# EAGLE library part INSECTCHIP3A (library harrison)
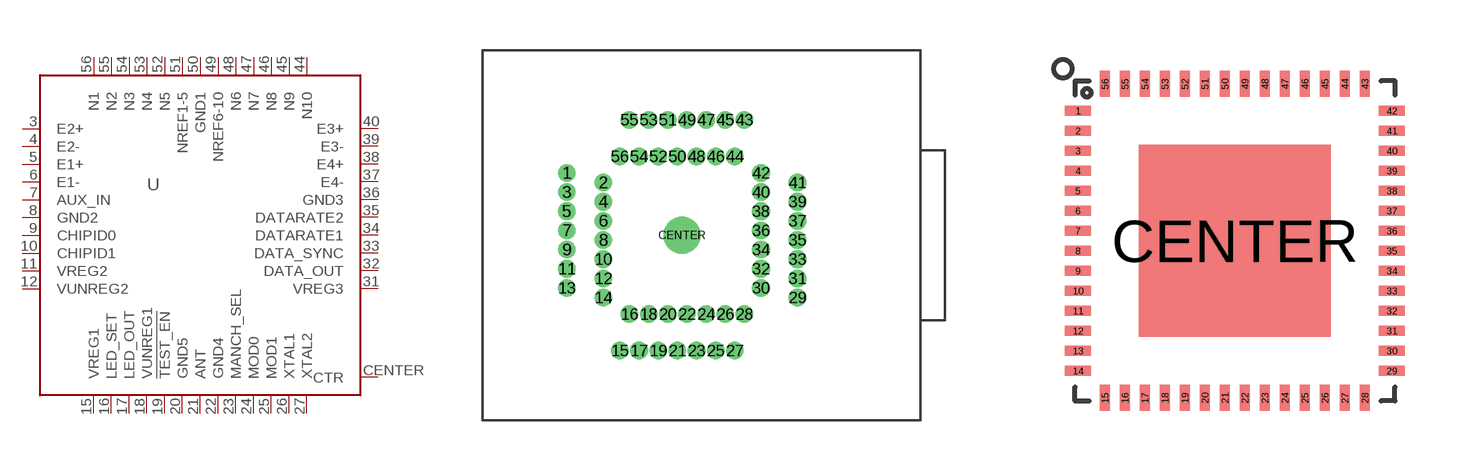
[diagram p58: symbol with the pads of ZIF_QFN56_8_X_8; footprints ZIF_QFN56_8_X_8, QFN56_8_X_8]

Designator prefix U

## INSECTCHIP3A_ZIF  [ZIF_QFN56_8_X_8]
3  E2+  in
4  E2-  in
5  E1+  in
6  E1-  in
7  AUX_IN  in
8  GND2  pwr
9  CHIPID0  in
10  CHIPID1  in
11  VREG2  pwr
12  VUNREG2  pwr
15  VREG1  pwr
16  LED_SET  pas
17  LED_OUT  pas
18  VUNREG1  pwr
19  !TEST_EN!  in
20  GND5  pwr
21  ANT  pas
22  GND4  pwr
23  MANCH_SEL  in
24  MOD0  in
25  MOD1  in
26  XTAL1  pas
27  XTAL2  pas
31  VREG3  pwr
32  DATA_OUT  out
33  DATA_SYNC  out
34  DATARATE1  in
35  DATARATE2  in
36  GND3  pwr
37  E4-  in
38  E4+  in
39  E3-  in
40  E3+  in
44  N10  in
45  N9  in
46  N8  in
47  N7  in
48  N6  in
49  NREF6-10  in
50  GND1  pwr
51  NREF1-5  in
52  N5  in
53  N4  in
54  N3  in
55  N2  in
56  N1  in
CENTER  CTR  pwr

## INSECTCHIP3A_QFN  [QFN56_8_X_8]
Pads as for ZIF_QFN56_8_X_8

## INSECTCHIP3A_COB1  [INSECTCHIP3_COB_1]
1  E2+  in
2  E2-  in
3  E1+  in
4  E1-  in
5  AUX_IN  in
6  GND2  pwr
7  CHIPID0  in
8  CHIPID1  in
9  VREG2  pwr
10  VUNREG2  pwr
11  VREG1  pwr
12  LED_SET  pas
13  LED_OUT  pas
14  VUNREG1  pwr
15  !TEST_EN!  in
16  GND5  pwr
17  ANT  pas
18  GND4  pwr
19  MANCH_SEL  in
20  MOD0  in
21  MOD1  in
22  XTAL1  pas
23  XTAL2  pas
24  VREG3  pwr
25  DATA_OUT  out
26  DATA_SYNC  out
27  DATARATE1  in
28  DATARATE2  in
29  GND3  pwr
30  E4-  in
31  E4+  in
32  E3-  in
33  E3+  in
34  N10  in
35  N9  in
36  N8  in
37  N7  in
38  N6  in
39  NREF6-10  in
40  GND1  pwr
41  NREF1-5  in
42  N5  in
43  N4  in
44  N3  in
45  N2  in
46  N1  in
CENTER  CTR  pwr

## INSECTCHIP3A_COB2  [INSECTCHIP3_COB_2]
Pads as for INSECTCHIP3_COB_1

## Footprint ZIF_QFN56_8_X_8 (pad centres in mm)
drill 0.41 pad 0.813: 1 -6.02,3.251; 2 -4.115,2.751; 3 -6.02,2.25; 4 -4.115,1.75; 5 -6.02,1.25; 6 -4.115,0.752; 7 -6.02,0.249; 8 -4.115,-0.249; 9 -6.02,-0.749; 10 -4.115,-1.25; 11 -6.02,-1.75; 12 -4.115,-2.25; 13 -6.02,-2.751; 14 -4.115,-3.251; 15 -3.251,-6.02; 16 -2.751,-4.115; 17 -2.25,-6.02; 18 -1.75,-4.115; 19 -1.25,-6.02; 20 -0.752,-4.115; 21 -0.249,-6.02; 22 0.249,-4.115; 23 0.749,-6.02; 24 1.25,-4.115; 25 1.75,-6.02; 26 2.25,-4.115; 27 2.751,-6.02; 28 3.251,-4.115; 29 6.02,-3.251; 30 4.115,-2.751; 31 6.02,-2.25; 32 4.115,-1.75; 33 6.02,-1.25; 34 4.115,-0.752; 35 6.02,-0.249; 36 4.115,0.249; 37 6.02,0.749; 38 4.115,1.25; 39 6.02,1.75; 40 4.115,2.25; 41 6.02,2.751; 42 4.115,3.251; 43 3.251,6.02; 44 2.751,4.115; 45 2.25,6.02; 46 1.75,4.115; 47 1.25,6.02; 48 0.752,4.115; 49 0.249,6.02; 50 -0.249,4.115; 51 -0.749,6.02; 52 -1.25,4.115; 53 -1.75,6.02; 54 -2.25,4.115; 55 -2.751,6.02; 56 -3.251,4.115
drill 1.02 pad 1.93: CENTER 0,0

## Footprint QFN56_8_X_8 (pad centres in mm)
smd 0.65 x 0.25: 1 -3.925,3.25; 2 -3.925,2.75; 3 -3.925,2.25; 4 -3.925,1.75; 5 -3.925,1.25; 6 -3.925,0.75; 7 -3.925,0.25; 8 -3.925,-0.25; 9 -3.925,-0.75; 10 -3.925,-1.25; 11 -3.925,-1.75; 12 -3.925,-2.25; 13 -3.925,-2.75; 14 -3.925,-3.25; 29 3.925,-3.25; 30 3.925,-2.75; 31 3.925,-2.25; 32 3.925,-1.75; 33 3.925,-1.25; 34 3.925,-0.75; 35 3.925,-0.25; 36 3.925,0.25; 37 3.925,0.75; 38 3.925,1.25; 39 3.925,1.75; 40 3.925,2.25; 41 3.925,2.75; 42 3.925,3.25
smd 0.25 x 0.65: 15 -3.25,-3.925; 16 -2.75,-3.925; 17 -2.25,-3.925; 18 -1.75,-3.925; 19 -1.25,-3.925; 20 -0.75,-3.925; 21 -0.25,-3.925; 22 0.25,-3.925; 23 0.75,-3.925; 24 1.25,-3.925; 25 1.75,-3.925; 26 2.25,-3.925; 27 2.75,-3.925; 28 3.25,-3.925; 43 3.25,3.925; 44 2.75,3.925; 45 2.25,3.925; 46 1.75,3.925; 47 1.25,3.925; 48 0.75,3.925; 49 0.25,3.925; 50 -0.25,3.925; 51 -0.75,3.925; 52 -1.25,3.925; 53 -1.75,3.925; 54 -2.25,3.925; 55 -2.75,3.925; 56 -3.25,3.925
smd 4.8 x 4.8: CENTER 0,0

## Footprint INSECTCHIP3_COB_1 (pad centres in mm)
smd 0.254 x 0.152: 1 -1.968,1.143; 2 -1.968,0.889; 3 -1.968,0.635; 4 -1.968,0.381; 5 -1.968,0.127; 6 -1.968,-0.127; 7 -1.968,-0.381; 8 -1.968,-0.635; 9 -1.968,-0.889; 10 -1.968,-1.143; 24 1.968,-1.143; 25 1.968,-0.889; 26 1.968,-0.635; 27 1.968,-0.381; 28 1.968,-0.127; 29 1.968,0.127; 30 1.968,0.381; 31 1.968,0.635; 32 1.968,0.889; 33 1.968,1.143
smd 0.152 x 0.254: 11 -1.524,-1.714; 12 -1.27,-1.714; 13 -1.016,-1.714; 14 -0.762,-1.714; 15 -0.508,-1.714; 16 -0.254,-1.714; 17 0,-1.714; 18 0.254,-1.714; 19 0.508,-1.714; 20 0.762,-1.714; 21 1.016,-1.714; 22 1.27,-1.714; 23 1.524,-1.714; 34 1.524,1.714; 35 1.27,1.714; 36 1.016,1.714; 37 0.762,1.714; 38 0.508,1.714; 39 0.254,1.714; 40 0,1.714; 41 -0.254,1.714; 42 -0.508,1.714; 43 -0.762,1.714; 44 -1.016,1.714; 45 -1.27,1.714; 46 -1.524,1.714
smd 2.921 x 2.413: CENTER 0,0

## Footprint INSECTCHIP3_COB_2 (pad centres in mm)
smd 0.152 x 0.152: 1 -1.778,1.143; 2 -1.778,0.889; 3 -1.778,0.635; 4 -1.778,0.381; 5 -1.778,0.127; 6 -1.778,-0.127; 7 -1.778,-0.381; 8 -1.778,-0.635; 9 -1.778,-0.889; 10 -1.778,-1.143; 11 -1.524,-1.524; 12 -1.27,-1.524; 13 -1.016,-1.524; 14 -0.762,-1.524; 15 -0.508,-1.524; 16 -0.254,-1.524; 17 0,-1.524; 18 0.254,-1.524; 19 0.508,-1.524; 20 0.762,-1.524; 21 1.016,-1.524; 22 1.27,-1.524; 23 1.524,-1.524; 24 1.778,-1.143; 25 1.778,-0.889; 26 1.778,-0.635; 27 1.778,-0.381; 28 1.778,-0.127; 29 1.778,0.127; 30 1.778,0.381; 31 1.778,0.635; 32 1.778,0.889; 33 1.778,1.143; 34 1.524,1.524; 35 1.27,1.524; 36 1.016,1.524; 37 0.762,1.524; 38 0.508,1.524; 39 0.254,1.524; 40 0,1.524; 41 -0.254,1.524; 42 -0.508,1.524; 43 -0.762,1.524; 44 -1.016,1.524; 45 -1.27,1.524; 46 -1.524,1.524
smd 2.54 x 2.032: CENTER 0,0